# EAGLE library part LPS22HB_HLGA (library Sombeck_lib)
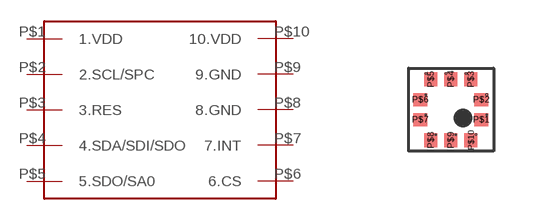
[diagram p3: symbol with the pads of LPS22HB_HLGA; footprint LPS22HB_HLGA]

Designator prefix -

## LPS22HB_HLGA  [LPS22HB_HLGA]
P$1  1.VDD
P$2  2.SCL/SPC
P$3  3.RES
P$4  4.SDA/SDI/SDO
P$5  5.SDO/SA0
P$6  6.CS
P$7  7.INT
P$8  8.GND
P$9  9.GND
P$10  10.VDD

## Footprint LPS22HB_HLGA (pad centres in mm)
smd 0.35 x 0.325: P$1 0.762,-0.25; P$2 0.762,0.25; P$6 -0.762,0.25; P$7 -0.762,-0.25
smd 0.325 x 0.35: P$3 0.5,0.762; P$4 0,0.762; P$5 -0.5,0.762; P$8 -0.5,-0.762; P$9 0,-0.762; P$10 0.5,-0.762